# Altium schematic symbol library COMPONENTS_2022.SchLib: 55 symbols
Pins are listed as number, name and electrical type; pins without a type are passive.

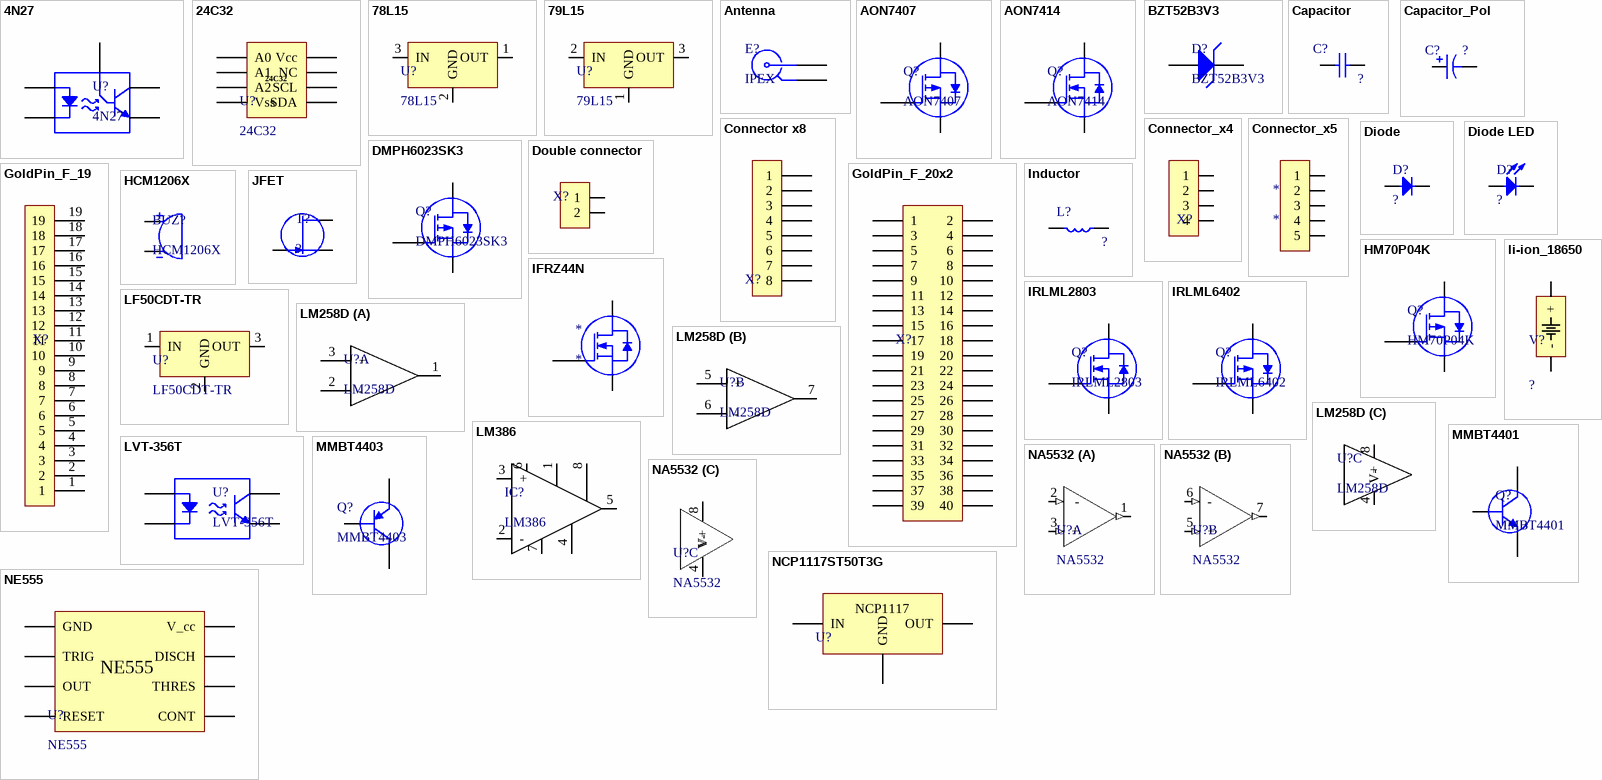
[diagram p0: symbols 4N27 to NE555]

## 4N27
designator U?
Optocoupler; Parameter 1: *
footprint DIP6
pins: 1 A, 2 K, 4 E, 5 C, 6 B

## 24C32
designator U?
Smart Serial EEPROM I2C
footprint TSSOP-8
pins: 1 A0, 2 A1, 3 A2, 4 Vss, 5 SDA, 6 SCL, 7 NC, 8 Vcc

## 78L15
designator U?
footprint TO-92_BO
footprint SOT89
pins: 1 OUT, 2 GND, 3 IN

## 79L15
designator U?
footprint TO-92_BO
footprint SOT89
pins: 1 GND, 2 IN, 3 OUT

## Antenna
designator E?, comment IPEX
footprint IPEX
pins: 1, 2

## AON7407
designator Q?
P-MOSFET; VDS: -20V; ID: -29A; PD: 12W; UGS: 8V; Ron: 18mOhm; Gc: 44nC
footprint DFN3x3
pins: 1 S, 4 G, 5 D

## AON7414
designator Q?
N-MOSFET; VDS: 30V; ID: 15A; PD: 6W; Ron: 15mOhm; Gc: 6.8nC; VGS: 20V
footprint DFN3x3
pins: 1 S, 4 G, 5 D

## BZT52B3V3
designator D?
footprint SOD-123F
pins: 1 A, 2 K

## Capacitor
designator C?  (value not drawn)
Capacitance: ?
footprint CAP_1206
footprint CAP_0603
footprint CAP_0805
pins: 1, 2

## Capacitor_Pol
designator C?  (value not drawn)
Value: ?
footprint PANASONIC_B_BO
footprint PANASONIC_C_BO
footprint PANASONIC_D8_BO
footprint CAP_POL_16x25
footprint CAP_POL_12.5x20
footprint CAP_POL_10x20
pins: 1, 2

## Connector x8
designator X?, comment ?  (value not drawn)
footprint CONNECTOR_8pin
footprint SCREW_TERMINAL_X8 5,08mm (RASTER 5 mm)
pins: 1, 2, 3, 4, 5, 6, 7, 8

## Connector_x4
designator X?  (value not drawn)
footprint Connector double
footprint GROVE_4_pin_2mm_socket
footprint GROVE_4_pin_2mm_socket_stright
pins: 1, 2, 3, 4

## Connector_x5
designator *
pins: 1, 2, 3, 4, 5

## Diode
designator D?, comment ?
footprint SOD-523
footprint SOD-323
footprint SMA/DO-214AC
pins: 1 A, 2 K

## Diode LED
designator D?, comment ?
footprint LED_1206
footprint LED_0603
footprint LED_SUPERFLUX_7.62x7.62
footprint LED_1206_DLC
footprint LED_GREEN_3mm
footprint LED_RED_3mm
footprint LED_YELLOW_3mm
footprint LED_0805
footprint LED_1206/3mm
pins: 1 A, 2 K

## DMPH6023SK3
designator Q?
P-MOSFET; VDS: -60V; ID: -27A; PD: 2W; UGS: 20V; Ron: 18mOhm; Gc: 44nC
footprint TO-252_DPAK
pins: 1 G, 2 S, 3 D

## Double connector
designator X?, comment ?  (value not drawn)
footprint double solder pad
footprint SCREW_TERMINAL_X2 (RASTER 3.81)
footprint SCREW_TERMINAL_X2 5mm (RASTER 5 mm)
footprint SCREW_TERMINAL_X2 5,08mm (RASTER 5 mm)
pins: 1, 2

## GoldPin_F_19
designator X?
footprint GoldPin_F_19
pins: 1, 2, 3, 4, 5, 6, 7, 8, 9, 10, 11, 12, 13, 14, 15, 16, 17, 18, 19

## GoldPin_F_20x2
designator X?
footprint GOLDPIN_F_20x2
pins: 1, 2, 3, 4, 5, 6, 7, 8, 9, 10, 11, 12, 13, 14, 15, 16, 17, 18, 19, 20, 21, 22, 23, 24, 25, 26, 27, 28, 29, 30, 31, 32, 33, 34, 35, 36, 37, 38, 39, 40

## HCM1206X
designator BUZ?
Buzzer; V: 3V; f: 3000 Hz
footprint HCM1206X
pins: 1 +, 2 -

## HM70P04K
designator Q?
P-MOSFET; VDS: -40V; ID: -50A; PD: 136W; UGS: 20V; Ron: 12mOhm; Gc: 44nC
footprint TO-252_DPAK
pins: 1 G, 2 S, 3 D

## IFRZ44N
designator *
footprint TO-220AB
pins: 1 G, 2 D, 3 S

## Inductor
designator L?  (value not drawn)
Inductance: ?
footprint IND_0603
footprint DTPU047A5 (Inductor 25x12 mm)
footprint IND_0805
pins: 1, 2

## IRLML2803
designator Q?
N-MOSFET; VDSS: 30 V; RDSon: 0.25 Ohm; IDmax: 1.2 A; VGSmax: 20 V
footprint SOT23_3_PIN
pins: 1 G, 2 S, 3 D

## IRLML6402
designator Q?
P-MOSFET; VDSS: -20 V; IDmax: -3.7A; RDSon: 0.065 Ohm; VGS: 12 V
footprint SOT23_3_PIN
pins: 1 G, 2 S, 3 D

## JFET
designator T?, comment ?
footprint SOT23_BO
pins: 1 D, 2 S, 3 G

## LF50CDT-TR
designator U?
footprint TO-252_DPAK
pins: 1 IN, 2 GND, 3 OUT

## li-ion_18650
designator V?
Voltage: ?
footprint Keystone_1042
pins: 1 -, 2 +

## LM258D
designator U?
footprint SO8
part A pins: 1 OUT1, 2 -, 3 +
part B pins: 5 +, 6 -, 7 OUT2
part C pins: 4 V-, 8 V+

## LM386
designator IC?
footprint SO8_BO
pins: 1, 2 -, 3 +, 4, 5, 6, 7, 8

## LVT-356T
designator U?
Optocoupler; Parameter 1: *
footprint SOP-4
pins: 1 A, 2 K, 3 E, 4 C

## MMBT4401
designator Q?
footprint SOT23_BO
pins: 1 B, 2 E, 3 C

## MMBT4403
designator Q?
footprint SOT23_3_PIN
pins: 2 1, 2 E, 3 C

## NA5532
designator U?
footprint DIP8_BO
footprint SOT96-1
part A pins: 1 (out), 2  - (in), 3 + (in)
part B pins: 5 + (in), 6 - (in), 7 (out)
part C pins: 4 V- (power), 8 V+ (power)

## NCP1117ST50T3G
designator U?  (value not drawn)
1.0 A Low-Dropout Positive / Fixed and Adjustable / Voltage Regulators; Output voltage: 5V; Dropout voltage: 1.2V; Max output current: 1 A
footprint SOT223
pins: 1 GND, 2 OUT, 3 IN
text: NCP1117

## NE555
designator U?
footprint SO8
pins: 1 GND, 2 TRIG, 3 OUT, 4 RESET, 5 CONT, 6 THRES, 7 DISCH, 8 V_cc

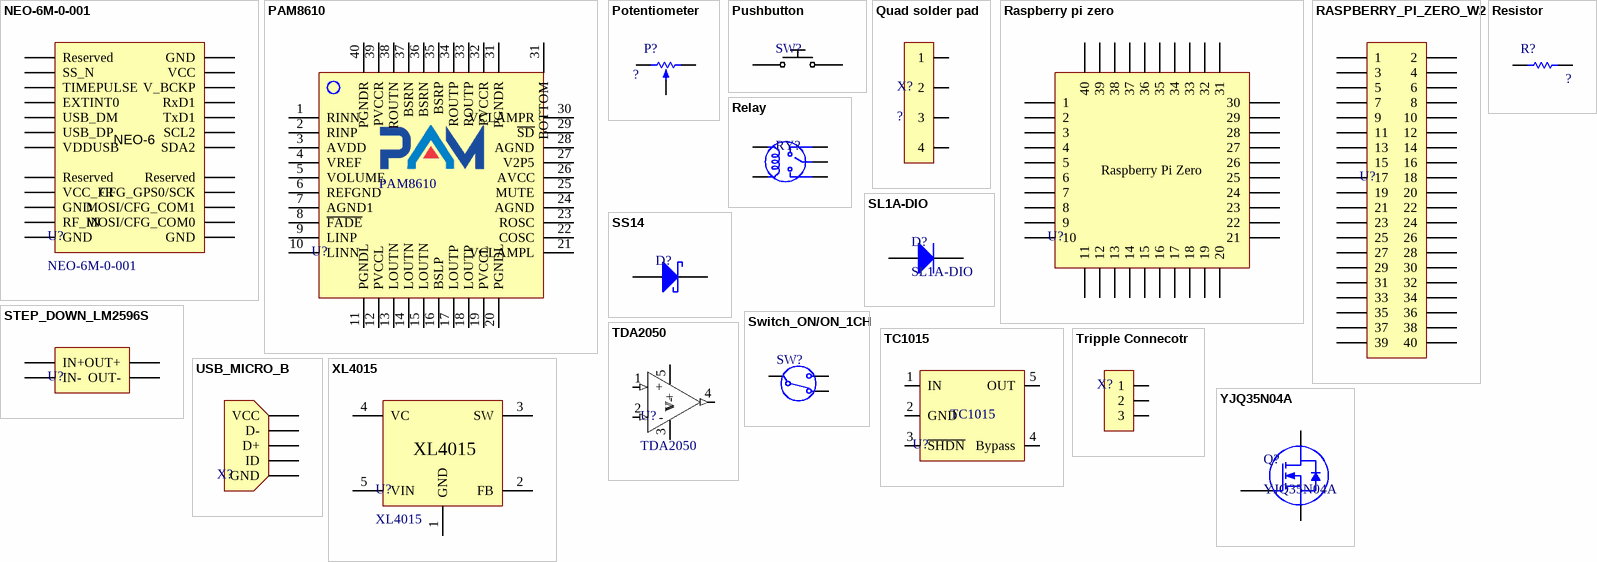
[diagram p1: symbols NEO-6M-0-001 to YJQ35N04A]

## NEO-6M-0-001
designator U?
GPS module
footprint NEO-6M-0-001
pins: 1 Reserved, 2 SS_N, 3 TIMEPULSE, 4 EXTINT0, 5 USB_DM, 6 USB_DP, 7 VDDUSB, 8 Reserved, 9 VCC_FR, 10 GND, 11 RF_IN, 12 GND, 13 GND, 14 MOSI/CFG_COM0, 15 MOSI/CFG_COM1, 16 CFG_GPS0/SCK, 17 Reserved, 18 SDA2, 19 SCL2, 20 TxD1, 21 RxD1, 22 V_BCKP, 23 VCC, 24 GND
text: NEO-6

## PAM8610
designator U?  (value not drawn)
footprint QFN40-6x6
pins: 1 RINN, 2 RINP, 3 AVDD, 4 VREF, 5 VOLUME, 6 REFGND, 7 AGND1, 8 ~{FADE}, 9 LINP, 10 LINN, 11 PGNDL, 12 PVCCL, 13 LOUTN, 14 LOUTN, 15 LOUTN, 16 BSLP, 17 LOUTP, 18 LOUTP, 19 PVCCL, 20 PGNDL, 21 VCLAMPL, 22 COSC, 23 ROSC, 24 AGND, 25 MUTE, 26 AVCC, 27 V2P5, 28 AGND, 29 ~{SD}, 30 VCLAMPR, 31 PGNDR, 31 BOTTOM, 32 PVCCR, 33 ROUTP, 34 ROUTP, 35 BSRP, 36 BSRN, 37 BSRN, 38 ROUTN, 39 PVCCR, 40 PGNDR

## Potentiometer
designator P?  (value not drawn)
Resistance: ?
footprint POT_1801-J_BO
footprint BOURNS_3362P
footprint 3296w
pins: 1, 2, 3

## Pushbutton
designator SW?  (value not drawn)
footprint Key switch Outemu
pins: 1, 2

## Quad solder pad
designator X?, comment ?
footprint quad solder pad
pins: 1, 2, 3, 4

## Raspberry pi zero
designator U?
pins: 1, 2, 3, 4, 5, 6, 7, 8, 9, 10, 11, 12, 13, 14, 15, 16, 17, 18, 19, 20, 21, 22, 23, 24, 25, 26, 27, 28, 29, 30, 31, 32, 33, 34, 35, 36, 37, 38, 39, 40
text: Raspberry Pi Zero

## RASPBERRY_PI_ZERO_W2
designator U?
footprint RASPBERRY_PI_ZERO_W2
pins: 1, 2, 3, 4, 5, 6, 7, 8, 9, 10, 11, 12, 13, 14, 15, 16, 17, 18, 19, 20, 21, 22, 23, 24, 25, 26, 27, 28, 29, 30, 31, 32, 33, 34, 35, 36, 37, 38, 39, 40

## Relay
designator RY?  (value not drawn)
footprint Relay LQ12
pins: 30, 85, 86, 87, 87a

## Resistor
designator R?  (value not drawn)
Resistance: ?
footprint RES_1206
footprint RES_0603
footprint RES_0805
pins: 1, 2

## SL1A-DIO
designator D?
footprint SOD-123F
pins: 1 A, 2 K

## SS14
designator D?  (value not drawn)
Schottky; VRRM: 40 V; VRMS: 28V; I(AV): 1 A; IFSM: 30 A; IR; TA=25: 0.5 mA; IR; TA=100: 20 mA; VF: 0.7V
footprint SMA/DO-214AC
pins: 1 A, 2 K

## STEP_DOWN_LM2596S
designator U?  (value not drawn)
footprint STEP_DOWN_LM2596S
pins: 1 IN+, 2 IN-, 3 OUT+, 4 OUT-

## Switch_ON/ON_1CH
designator SW?  (value not drawn)
footprint SS03-12D01-CG4
pins: 1, 2, 3

## TC1015
designator U?  (value not drawn)
footprint SOT23_5_PIN
pins: 1 IN, 2 GND, 3 ~{SHDN}, 4 Bypass, 5 OUT

## TDA2050
designator U?
footprint TO-22B_BO
pins: 1 + (in), 2  - (in), 3 V- (power), 4 (out), 5 V+ (power)

## Tripple Connecotr
designator X?, comment ?  (value not drawn)
footprint tripple solder pad
footprint SCREW_TERMINAL_X3 5mm (RASTER 5 mm)
pins: 1, 2, 3

## USB_MICRO_B
designator X?  (value not drawn)
footprint USB_MICRO_B_MX-105017-0001
footprint USB_MICRO_B_940 KEYSTONE
pins: 1 VCC, 2 D-, 3 D+, 4 ID, 5 GND

## XL4015
designator U?
5A 180KHz 36V Buck DC to DC Converter
footprint TO263-5L
pins: 1 GND, 2 FB, 3 SW, 4 VC, 5 VIN

## YJQ35N04A
designator Q?
footprint DFN3.3x3.3
pins: 1 S, 4 G, 5 D